# Altium schematic symbol library MBLv1.SchLib: 2 symbols
Pins are listed as number, name and electrical type; pins without a type are passive.

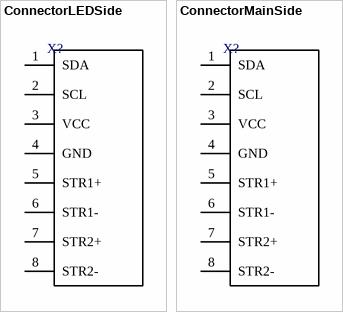
[diagram p0: symbols ConnectorLEDSide to ConnectorMainSide]

## ConnectorLEDSide
designator X?  (value not drawn)  (no BOM)
footprint ConnectorLEDSide
pins: 1 SDA, 2 SCL, 3 VCC, 4 GND, 5 STR1+, 6 STR1-, 7 STR2+, 8 STR2-

## ConnectorMainSide
designator X?  (value not drawn)  (no BOM)
footprint ConnectorMainSide
pins: 1 SDA, 2 SCL, 3 VCC, 4 GND, 5 STR1+, 6 STR1-, 7 STR2+, 8 STR2-